# Altium schematic symbol library CC0201KRX5R6BB104.SchLib: 1 symbol
Pins are listed as number, name and electrical type; pins without a type are passive.

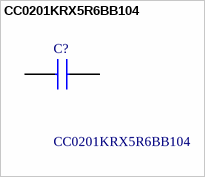
[diagram p0: symbol CC0201KRX5R6BB104]

## CC0201KRX5R6BB104
designator C?
Multilayer Ceramic Capacitors MLCC - SMD/SMT 10 V 0.1uF X5R 0201 10%; Manufacturer_Name: Yageo Group; Geometry.Height: 0.35mm; Mouser Part Number: 603-CC201KRX5R6BB104; Mouser Price/Stock: https://www.mouser.co.uk/ProductDetail/YAGEO/CC0201KRX5R6BB104?qs=vCz78MyBKmpx%252BntAJRyVZA%3D%3D; Manufacturer_Part_Number: CC0201KRX5R6BB104; Datasheet Link: *
footprint CAPC0603X35N
pins: 1, 2